# Altium footprint library CONN_HDR_2MM.PcbLib: 34 footprints (part 1 of 3)
Each footprint in its own frame and in the unit in brackets; x right, y up, seen from the top. Pads: shape width x height; smd on the part's side, far side on the other; paste and mask are expansions set on the pad; w line width, h text height; cw(c..) or ccw(c..) is an arc to the next point about the centre after c.
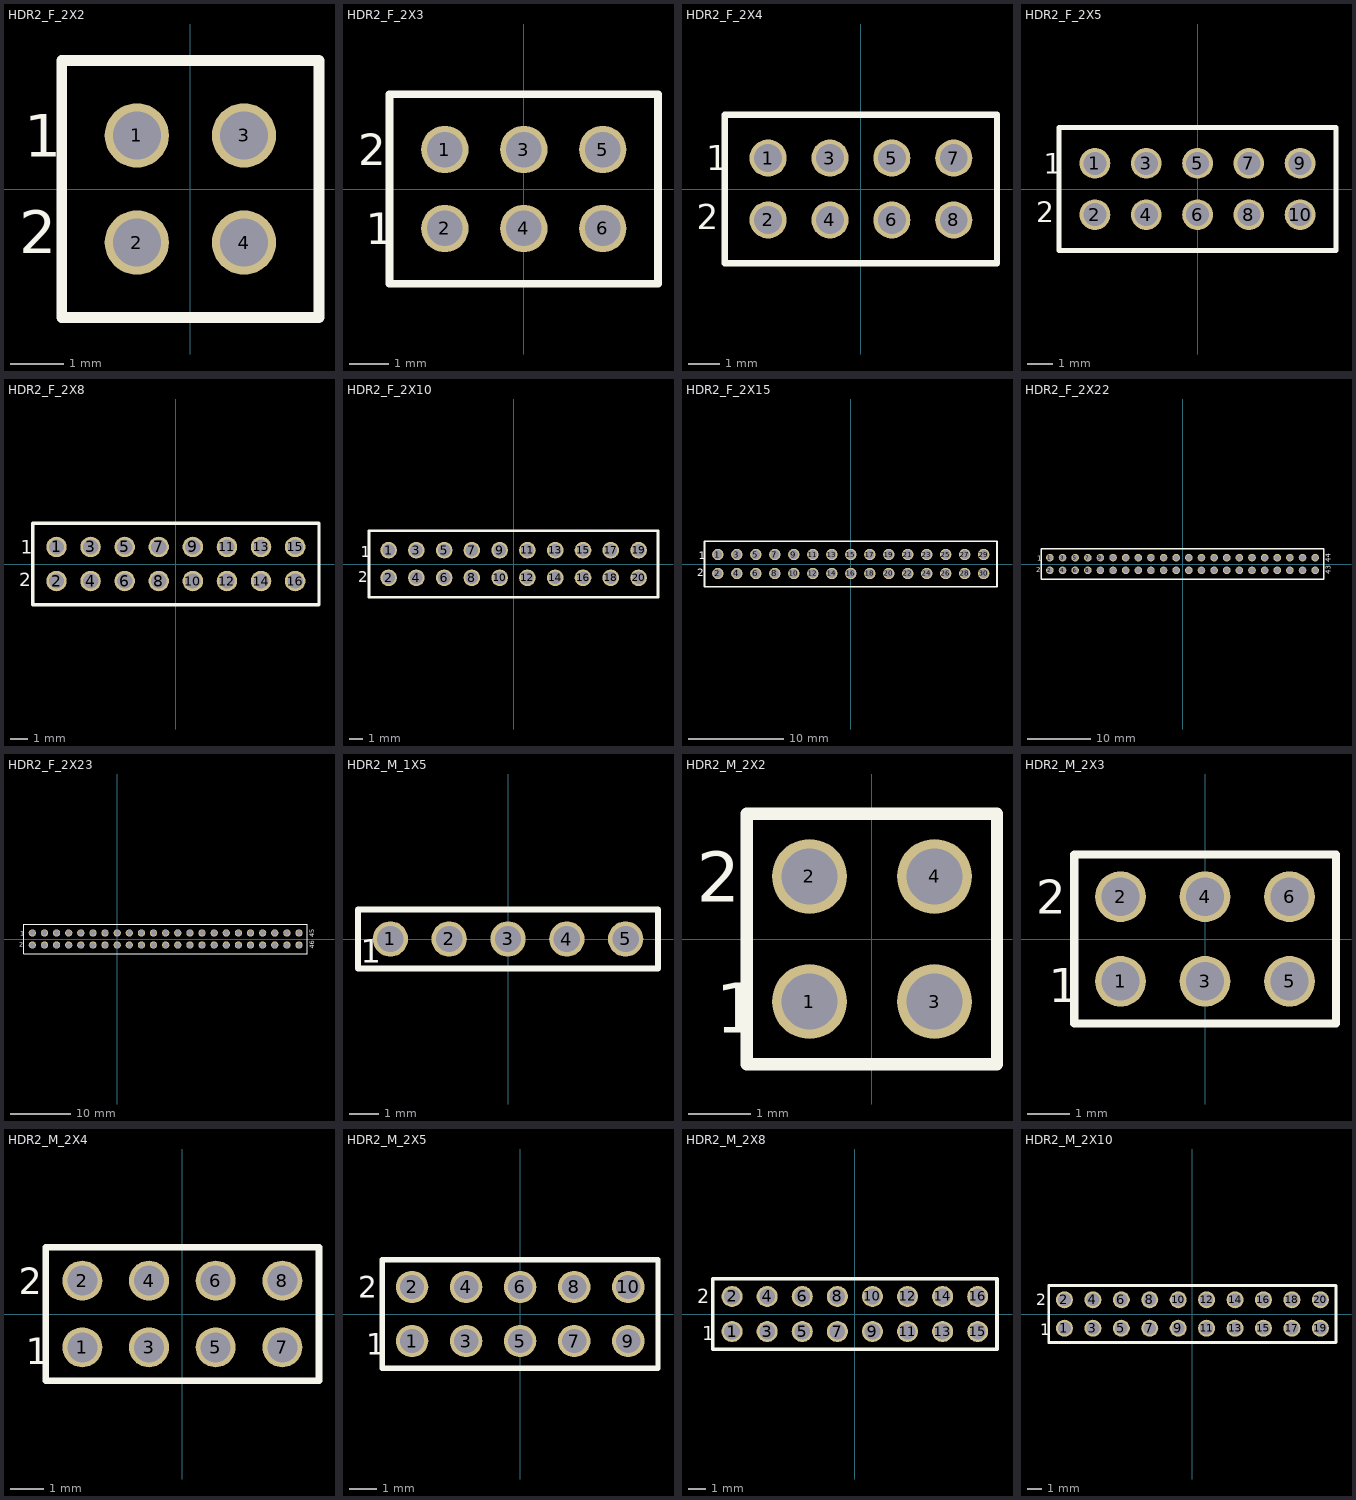
[diagram p0: the footprints below, top view; thin cyan lines are the x and y axes]

## HDR2_F_2X2 [mm] "Connector; Header; 2mm Pitch"
pads (4):
  round 1.2 / inner round 1.2 / far side oval 1.2x1.6 hole 0.9: 1(-1,1) 2(-1,-1) 3(1,1) 4(1,-1)
Top Overlay:
  lines w0.2: -2.4,-2.4 -2.4,2.4 2.4,2.4 2.4,-2.4 -2.4,-2.4
  text "1" at -3.1,0.6 h0.8
  text "2" at -3.2,-1.2 h0.8
3D body "female_header_a-bl200-dg-g04d.stp": height 4, standoff -2.8, extent -2.25,-2.25 2.25,2.25

## HDR2_F_2X3 [mm] "Connector; Header; 2mm Pitch"
pads (6):
  round 1.2 / inner round 1.2 / far side oval 1.2x1.6 hole 0.9: 1(-2,1) 2(-2,-1) 3(0,1) 4(0,-1) 5(2,1) 6(2,-1)
Top Overlay:
  lines w0.2: -3.4,-2.4 3.4,-2.4 3.4,2.4 -3.4,2.4 -3.4,-2.4
  text "1" at -4,-1.4 h0.8
  text "2" at -4.2,0.6 h0.8
3D body "female_header_a-bl200-dg-g06d.stp": height 4, standoff -2.8, extent -3.25,-2.25 3.25,2.25

## HDR2_F_2X4 [mm] "Connector; Header; 2mm Pitch"
pads (8):
  round 1.2 / inner round 1.2 / far side oval 1.2x1.6 hole 0.9: 1(-3,1) 2(-3,-1) 3(-1,1) 4(-1,-1) 5(1,1) 6(1,-1) 7(3,1) 8(3,-1)
Top Overlay:
  lines w0.2: -4.4,-2.4 -4.4,2.4 4.4,2.4 4.4,-2.4 -4.4,-2.4
  text "2" at -5.3,-1.3 h0.8
  text "1" at -5,0.6 h0.8
3D body "female_header_a-bl200-dg-g08d.stp": height 4, standoff -2.8, extent -4.25,-2.25 4.25,2.25

## HDR2_F_2X5 [mm] "Connector; Header; 2mm Pitch"
pads (10):
  round 1.2 / inner round 1.2 / far side oval 1.2x1.6 hole 0.9: 1(-4,1) 2(-4,-1) 3(-2,1) 4(-2,-1) 5(0,1) 6(0,-1) 7(2,1) 8(2,-1) 9(4,1) 10(4,-1)
Top Overlay:
  lines w0.2: -5.4,-2.4 5.4,-2.4 5.4,2.4 -5.4,2.4 -5.4,-2.4
  text "1" at -6,0.6 h0.8
  text "2" at -6.3,-1.3 h0.8
3D body "female_header_a-bl200-dg-g10d.stp": height 4, standoff -2.8, extent -5.25,-2.25 5.25,2.25

## HDR2_F_2X8 [mm] "Connector; Header; 2mm Pitch"
pads (16):
  round 1.2 / inner round 1.2 / far side oval 1.2x1.6 hole 0.9: 1(-7,1) 2(-7,-1) 3(-5,1) 4(-5,-1) 5(-3,1) 6(-3,-1) 7(-1,1) 8(-1,-1) 9(1,1) 10(1,-1) 11(3,1) 12(3,-1) 13(5,1) 14(5,-1) 15(7,1) 16(7,-1)
Top Overlay:
  lines w0.2: -8.4,-2.4 8.4,-2.4 8.4,2.4 -8.4,2.4 -8.4,-2.4
  text "1" at -9.1,0.6 h0.8
  text "2" at -9.2,-1.3 h0.8
3D body "female_header_a-bl200-dg-g16d.stp": height 4, standoff -2.8, extent -8.25,-2.25 8.25,2.25

## HDR2_F_2X10 [mm] "Connector; Header; 2mm Pitch"
pads (20):
  round 1.2 / inner round 1.2 / far side oval 1.2x1.6 hole 0.9: 1(-9,1) 2(-9,-1) 3(-7,1) 4(-7,-1) 5(-5,1) 6(-5,-1) 7(-3,1) 8(-3,-1) 9(-1,1) 10(-1,-1) 11(1,1) 12(1,-1) 13(3,1) 14(3,-1) 15(5,1) 16(5,-1) 17(7,1) 18(7,-1) 19(9,1) 20(9,-1)
Top Overlay:
  lines w0.2: -10.4,-2.4 10.4,-2.4 10.4,2.4 -10.4,2.4 -10.4,-2.4
  text "1" at -11,0.5 h0.8
  text "2" at -11.2,-1.3 h0.8
3D body "female_header_a-bl200-dg-g20d.stp": height 4, standoff -2.8, extent -10.25,-2.25 10.25,2.25

## HDR2_F_2X15 [mm] "Connector; Header; 2mm Pitch"
pads (30):
  round 1.2 / inner round 1.2 / far side oval 1.2x1.6 hole 0.9: 1(-14,1) 2(-14,-1) 3(-12,1) 4(-12,-1) 5(-10,1) 6(-10,-1) 7(-8,1) 8(-8,-1) 9(-6,1) 10(-6,-1) 11(-4,1) 12(-4,-1) 13(-2,1) 14(-2,-1) 15(0,1) 16(0,-1) 17(2,1) 18(2,-1) 19(4,1) 20(4,-1) 21(6,1) 22(6,-1) 23(8,1) 24(8,-1) 25(10,1) 26(10,-1) 27(12,1) 28(12,-1) 29(14,1) 30(14,-1)
Top Overlay:
  lines w0.2: -15.4,-2.4 -15.4,2.4 15.4,2.4 15.4,-2.4 -15.4,-2.4
  text "2" at -16.2,-1.3 h0.8
  text "1" at -16,0.5 h0.8
3D body "female_header_a-bl200-dg-g10d.stp": height 4, standoff -2.8, extent 4.75,-2.25 15.25,2.25
3D body "female_header_a-bl200-dg-g20d.stp": height 4, standoff -2.8, extent -15.25,-2.25 5.25,2.25

## HDR2_F_2X22 [mm] "Connector; Header; 2mm Pitch"
pads (44):
  round 1.2 / inner round 1.2 / far side oval 1.2x1.6 hole 0.9: 1(-21,1) 2(-21,-1) 3(-19,1) 4(-19,-1) 5(-17,1) 6(-17,-1) 7(-15,1) 8(-15,-1) 9(-13,1) 10(-13,-1) 11(-11,1) 12(-11,-1) 13(-9,1) 14(-9,-1) 15(-7,1) 16(-7,-1) 17(-5,1) 18(-5,-1) 19(-3,1) 20(-3,-1) 21(-1,1) 22(-1,-1) 23(1,1) 24(1,-1) 25(3,1) 26(3,-1) 27(5,1) 28(5,-1) 29(7,1) 30(7,-1) 31(9,1) 32(9,-1) 33(11,1) 34(11,-1) 35(13,1) 36(13,-1) 37(15,1) 38(15,-1) 39(17,1) 40(17,-1) 41(19,1) 42(19,-1) 43(21,1) 44(21,-1)
Top Overlay:
  lines w0.2: -22.4,-2.4 22.4,-2.4 22.4,2.4 -22.4,2.4 -22.4,-2.4
  text "1" at -23,0.5 h0.8
  text "2" at -23.2,-1.3 h0.8
  text "43" at 23.5,-1.6 h0.8
  text "44" at 23.5,0.3 h0.8
3D body "female_header_a-bl200-dg-g04d.stp": height 4, standoff -2.8, extent 17.75,-2.25 22.25,2.25
3D body "female_header_a-bl200-dg-g20d.stp": height 4, standoff -2.8, extent -2.25,-2.25 18.25,2.25
3D body "female_header_a-bl200-dg-g20d.stp": height 4, standoff -2.8, extent -22.25,-2.25 -1.75,2.25

## HDR2_F_2X23 [mm] "Connector; Header; 2mm Pitch"
pads (46):
  round 1.2 / inner round 1.2 / far side oval 1.2x1.6 hole 0.9: 1(-14,1) 2(-14,-1) 3(-12,1) 4(-12,-1) 5(-10,1) 6(-10,-1) 7(-8,1) 8(-8,-1) 9(-6,1) 10(-6,-1) 11(-4,1) 12(-4,-1) 13(-2,1) 14(-2,-1) 15(0,1) 16(0,-1) 17(2,1) 18(2,-1) 19(4,1) 20(4,-1) 21(6,1) 22(6,-1) 23(8,1) 24(8,-1) 25(10,1) 26(10,-1) 27(12,1) 28(12,-1) 29(14,1) 30(14,-1) 31(16,1) 32(16,-1) 33(18,1) 34(18,-1) 35(20,1) 36(20,-1) 37(22,1) 38(22,-1) 39(24,1) 40(24,-1) 41(26,1) 42(26,-1) 43(28,1) 44(28,-1) 45(30,1) 46(30,-1)
Top Overlay:
  lines w0.2: -15.4,-2.4 31.4,-2.4 31.4,2.4 -15.4,2.4 -15.4,-2.4
  text "1" at -16,0.5 h0.8
  text "2" at -16.2,-1.3 h0.8
  text "46" at 32.5,-1.6 h0.8
  text "45" at 32.5,0.3 h0.8
3D body "female_header_a-bl200-dg-g20d.stp": height 4, standoff -2.8, extent 4.75,-2.25 25.25,2.25
3D body "female_header_a-bl200-dg-g20d.stp": height 4, standoff -2.8, extent -15.25,-2.25 5.25,2.25
3D body "female_header_a-bl200-dg-g06d.stp": height 4, standoff -2.8, extent 24.75,-2.25 31.25,2.25

## HDR2_M_1X5 [mm] "Connector; Header; 2mm Pitch"
pads (5):
  round 1.2 / inner round 1.2 / far side rect 1.2x1.6 hole 0.9: 1(-4,0)
  round 1.2 / inner round 1.2 / far side oval 1.2x1.6 hole 0.9: 2(-2,0) 3(0,0) 4(2,0) 5(4,0)
Top Overlay:
  lines w0.2: -5.1,-1 -5.1,1 5.1,1 5.1,-1 -5.1,-1
  text "1" at -5,-0.8 h0.8

## HDR2_M_2X2 [mm] "Connector; Header; 2mm Pitch"
pads (4):
  round 1.2 / inner round 1.2 / far side oval 1.2x1.6 hole 0.9: 1(-1,-1) 2(-1,1) 3(1,-1) 4(1,1)
Top Overlay:
  lines w0.2: -2,-2 -2,2 2,2 2,-2 -2,-2
  text "2" at -2.8,0.6 h0.8
  text "1" at -2.5,-1.5 h0.8
3D body "pin_header_a-sl200-dg-g04d.stp": height 6, standoff -2.8, extent -1.95,-2 1.95,2

## HDR2_M_2X3 [mm] "Connector; Header; 2mm Pitch"
pads (6):
  round 1.2 / inner round 1.2 / far side oval 1.2x1.6 hole 0.9: 1(-2,-1) 2(-2,1) 3(0,-1) 4(0,1) 5(2,-1) 6(2,1)
Top Overlay:
  lines w0.2: -3.1,-2 3.1,-2 3.1,2 -3.1,2 -3.1,-2
  text "1" at -3.7,-1.5 h0.8
  text "2" at -4,0.6 h0.8
3D body "pin_header_a-sl200-dg-g06d.stp": height 6, standoff -2.8, extent -2.95,-2 2.95,2

## HDR2_M_2X4 [mm] "Connector; Header; 2mm Pitch"
pads (8):
  round 1.2 / inner round 1.2 / far side oval 1.2x1.6 hole 0.9: 1(-3,-1) 2(-3,1) 3(-1,-1) 4(-1,1) 5(1,-1) 6(1,1) 7(3,-1) 8(3,1)
Top Overlay:
  lines w0.2: -4.1,-2 -4.1,2 4.1,2 4.1,-2 -4.1,-2
  text "2" at -4.9,0.6 h0.8
  text "1" at -4.7,-1.5 h0.8
3D body "pin_header_a-sl200-dg-g08d.stp": height 6, standoff -2.8, extent -3.95,-2 3.95,2

## HDR2_M_2X5 [mm] "Connector; Header; 2mm Pitch"
pads (10):
  round 1.2 / inner round 1.2 / far side oval 1.2x1.6 hole 0.9: 1(-4,-1) 2(-4,1) 3(-2,-1) 4(-2,1) 5(0,-1) 6(0,1) 7(2,-1) 8(2,1) 9(4,-1) 10(4,1)
Top Overlay:
  lines w0.2: -5.1,-2 5.1,-2 5.1,2 -5.1,2 -5.1,-2
  text "1" at -5.7,-1.5 h0.8
  text "2" at -6,0.6 h0.8
3D body "pin_header_a-sl200-dg-g10d.stp": height 6, standoff -2.8, extent -4.95,-2 4.95,2

## HDR2_M_2X8 [mm] "Connector; Header; 2mm Pitch"
pads (16):
  round 1.2 / inner round 1.2 / far side oval 1.2x1.6 hole 0.9: 1(-7,-1) 2(-7,1) 3(-5,-1) 4(-5,1) 5(-3,-1) 6(-3,1) 7(-1,-1) 8(-1,1) 9(1,-1) 10(1,1) 11(3,-1) 12(3,1) 13(5,-1) 14(5,1) 15(7,-1) 16(7,1)
Top Overlay:
  lines w0.2: -8.1,-2 -8.1,2 8.1,2 8.1,-2 -8.1,-2
  text "2" at -9,0.6 h0.8
  text "1" at -8.7,-1.5 h0.8
3D body "pin_header_a-sl200-dg-g16d.stp": height 6, standoff -2.8, extent -7.95,-2 7.95,2

## HDR2_M_2X10 [mm] "Connector; Header; 2mm Pitch"
pads (20):
  round 1.2 / inner round 1.2 / far side oval 1.2x1.6 hole 0.9: 1(-9,-1) 2(-9,1) 3(-7,-1) 4(-7,1) 5(-5,-1) 6(-5,1) 7(-3,-1) 8(-3,1) 9(-1,-1) 10(-1,1) 11(1,-1) 12(1,1) 13(3,-1) 14(3,1) 15(5,-1) 16(5,1) 17(7,-1) 18(7,1) 19(9,-1) 20(9,1)
Top Overlay:
  lines w0.2: -10.1,-2 10.1,-2 10.1,2 -10.1,2 -10.1,-2
  text "1" at -10.7,-1.5 h0.8
  text "2" at -11,0.6 h0.8
3D body "pin_header_a-sl200-dg-g20d.stp": height 6, standoff -2.8, extent -9.95,-2 9.95,2